# EAGLE library part 632712000011 (library WR-USB)
WR-USB Type C Connectors Characteristics Available in 24p (3.x), 16p (2.0) and 6p (Power Delivery only) Aligned with Power Delivery up to 240W High durability (10 000 cycles) UL, TID listing for USB standards Applications Mobile computing and smart devices High-performance industrial and medical systems Consumer electronics and multimedia hubs Smart buildings Details see: www.we-online.com/en/components/products/INPUT_OUTPUT_WR_USB_STANDARD Updated by Ella 2024-05-21 2024 (C) Würth Elektronik
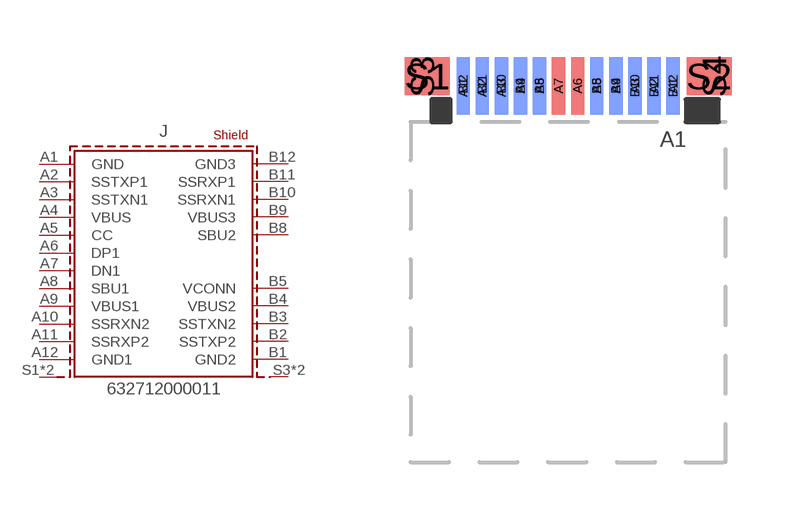
[diagram p30: symbol with the pads of 632712000011; footprint 632712000011]

Designator prefix J

## 632712000011 (APPLICATION: USB 3.1; DATASHEET: https://www.we-online.com/redexpert/spec/632712000011?ae; GERDER: Plug; INTERFACE-TYPE: Type C; IR: 5 A; MOUNT: SMT; PACKAGING: Tape and Reel with Cap; PART-NUMBER: 632712000011; PCB-THICKNESS: 0.8 mm; PINS: 22pcs; TYPE: Horizontal; VALUE: 632712000011; WORKING-VOLTAGE: 20 V (DC))  [632712000011]
A1  GND  pas
A2  SSTXP1  pas
A3  SSTXN1  pas
A4  VBUS  pas
A5  CC  pas
A6  DP1  pas
A7  DN1  pas
A8  SBU1  pas
A9  VBUS1  pas
A10  SSRXN2  pas
A11  SSRXP2  pas
A12  GND1  pas
B1  GND2  pas
B2  SSTXP2  pas
B3  SSTXN2  pas
B4  VBUS2  pas
B5  VCONN  pas
B8  SBU2  pas
B9  VBUS3  pas
B10  SSRXN1  pas
B11  SSRXP1  pas
B12  GND3  pas
S1  SHIELD  pas
S2  SHIELD  pas
S3  SHIELD1  pas
S4  SHIELD1  pas

## Footprint 632712000011 (pad centres in mm)
WR-USB Type C Connectors USB 3.1, Type C, Horizontal SMT, 22Pins, PCB Thickness:0.8 mm
smd 0.35 x 1.5: A1 2.75,0; A2 2.25,0; A3 1.75,0; A4 1.25,0; A5 0.75,0; A6 0.25,0; A7 -0.25,0; A8 -0.75,0; A9 -1.25,0; A10 -1.75,0; A11 -2.25,0; A12 -2.75,0
smd 0.35 x 1.5 bottom: B1 -2.75,0; B2 -2.25,0; B3 -1.75,0; B4 -1.25,0; B5 -0.75,0; B8 0.75,0; B9 1.25,0; B10 1.75,0; B11 2.25,0; B12 2.75,0
smd 1.18 x 1: S1 -3.69,0.25; S2 3.69,0.25
smd 0.9 x 1 bottom: S3 -3.825,0.25; S4 3.825,0.25